# Altium schematic symbol library ltc5548.SchLib: 1 symbol
Pins are listed as number, name and electrical type; pins without a type are passive.

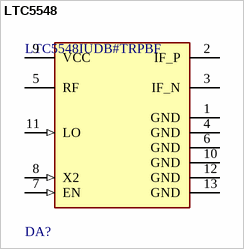
[diagram p0: symbol LTC5548]

## LTC5548
designator DA?, comment LTC5548IUDB#TRPBF
IC MIXR 2GHZ TO 14GHZ 12-QFN; RoHS Compliant: Yes
footprint FP-UDB-12-05-08-1985-MFG
pins: 1 GND (power), 2 IF_P, 3 IF_N, 4 GND (power), 5 RF, 6 GND (power), 7 EN (in), 8 X2 (in), 9 VCC (power), 10 GND (power), 11 LO (in), 12 GND (power), 13 GND (power)